# EAGLE library part TLC2272-Q1_D_8 (library SensorCape)
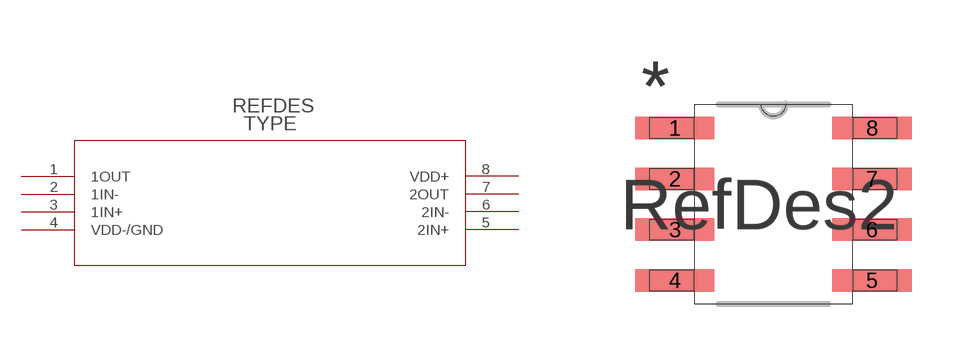
[diagram p9: symbol with the pads of D8; footprint D8]

Designator prefix U

## TLC2272-Q1_D_8  [D8]
1  1OUT  pas
2  1IN-  pas
3  1IN+  pas
4  VDD-/GND  pas
5  2IN+  pas
6  2IN-  pas
7  2OUT  pas
8  VDD+  pas

## Footprint D8 (pad centres in mm)
smd 1.981 x 0.559: 1 -2.464,1.905; 2 -2.464,0.635; 3 -2.464,-0.635; 4 -2.464,-1.905; 5 2.464,-1.905; 6 2.464,-0.635; 7 2.464,0.635; 8 2.464,1.905